# Altium schematic symbol library AO3400A.SchLib: 2 symbols
Pins are listed as number, name and electrical type; pins without a type are passive.

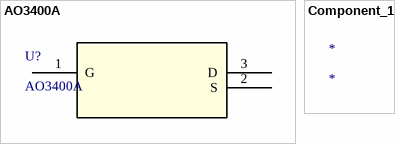
[diagram p0: symbols AO3400A to Component_1]

## AO3400A
designator U?
No Description Available; Mfr_Name: Alpha and Omega Semiconductor; Copyright: Copyright (C) 2021 Ultra Librarian. All rights reserved.; Manufacturer_Part_Number: AO3400A; RefDes: RefDes; Type: DEV
footprint SOT-23-3L_AOS
pins: 1 G, 2 S, 3 D

## Component_1
designator *